# Altium footprint library My_Connectors.PcbLib: 2 footprints
Each footprint in its own frame and in the unit in brackets; x right, y up, seen from the top. Pads: shape width x height; smd on the part's side, far side on the other; paste and mask are expansions set on the pad; w line width, h text height; cw(c..) or ccw(c..) is an arc to the next point about the centre after c.
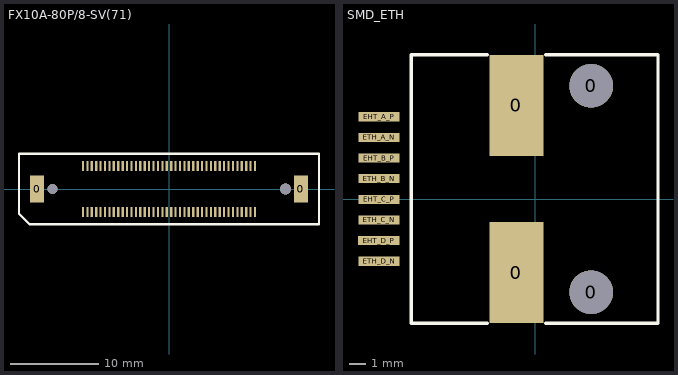
[diagram p0: the footprints below, top view; thin cyan lines are the x and y axes]

## FX10A-80P/8-SV(71) [mm]
height 4
pads (82):
  rect 1.6x3.1 smd: 0(-14.95,0) 0(14.95,0)
  rect 0.25x1.1 smd: 1(-9.75,2.6) 2(-9.75,-2.6) 3(-9.25,2.6) 4(-9.25,-2.6) 5(-8.75,2.6) 6(-8.75,-2.6) 7(-8.25,2.6) 8(-8.25,-2.6) 9(-7.75,2.6) 10(-7.75,-2.6) 11(-7.25,2.6) 12(-7.25,-2.6) 13(-6.75,2.6) 14(-6.75,-2.6) 15(-6.25,2.6) 16(-6.25,-2.6) 17(-5.75,2.6) 18(-5.75,-2.6) 19(-5.25,2.6) 20(-5.25,-2.6) 21(-4.75,2.6) 22(-4.75,-2.6) 23(-4.25,2.6) 24(-4.25,-2.6) 25(-3.75,2.6) 26(-3.75,-2.6) 27(-3.25,2.6) 28(-3.25,-2.6) 29(-2.75,2.6) 30(-2.75,-2.6) 31(-2.25,2.6) 32(-2.25,-2.6) 33(-1.75,2.6) 34(-1.75,-2.6) 35(-1.25,2.6) 36(-1.25,-2.6) 37(-0.75,2.6) 38(-0.75,-2.6) 39(-0.25,2.6) 40(-0.25,-2.6) 41(0.25,2.6) 42(0.25,-2.6) 43(0.75,2.6) 44(0.75,-2.6) 45(1.25,2.6) 46(1.25,-2.6) 47(1.75,2.6) 48(1.75,-2.6) 49(2.25,2.6) 50(2.25,-2.6) 51(2.75,2.6) 52(2.75,-2.6) 53(3.25,2.6) 54(3.25,-2.6) 55(3.75,2.6) 56(3.75,-2.6) 57(4.25,2.6) 58(4.25,-2.6) 59(4.75,2.6) 60(4.75,-2.6) 61(5.25,2.6) 62(5.25,-2.6) 63(5.75,2.6) 64(5.75,-2.6) 65(6.25,2.6) 66(6.25,-2.6) 67(6.75,2.6) 68(6.75,-2.6) 69(7.25,2.6) 70(7.25,-2.6) 71(7.75,2.6) 72(7.75,-2.6) 73(8.25,2.6) 74(8.25,-2.6) 75(8.75,2.6) 76(8.75,-2.6) 77(9.25,2.6) 78(9.25,-2.6) 79(9.75,2.6) 80(9.75,-2.6)
via -13.2,0 diameter 1.1 hole 1.1
via 13.2,0 diameter 1.2 hole 1.2
Top Overlay:
  lines w0.254: -17,-2.8 -17,4 -14.4,4 17,4 17,-4 -15.8,-4 -17,-2.8

## SMD_ETH [mil]
pads (12):
  rect 130x245 smd: 0(-46,-177.5) 0(-46,227.5)
  round 106 hole 106: 0(135,-225) 0(135,275)
  rect 100x22 smd: EHT_A_P(-379,200) EHT_B_P(-379,100) EHT_C_P(-379,0) EHT_D_P(-380,-100) ETH_A_N(-379,150) ETH_B_N(-379,50) ETH_C_N(-379,-50) ETH_D_N(-379,-150)
Top Overlay:
  lines w8: -117,-300 -301,-300 -301,350 -117,350 ; 25,-300 297,-300 297,350 25,350